# Altium footprint library SOT23_L.PcbLib: 10 footprints
Each footprint in its own frame and in the unit in brackets; x right, y up, seen from the top. Pads: shape width x height; smd on the part's side, far side on the other; paste and mask are expansions set on the pad; w line width, h text height; cw(c..) or ccw(c..) is an arc to the next point about the centre after c.
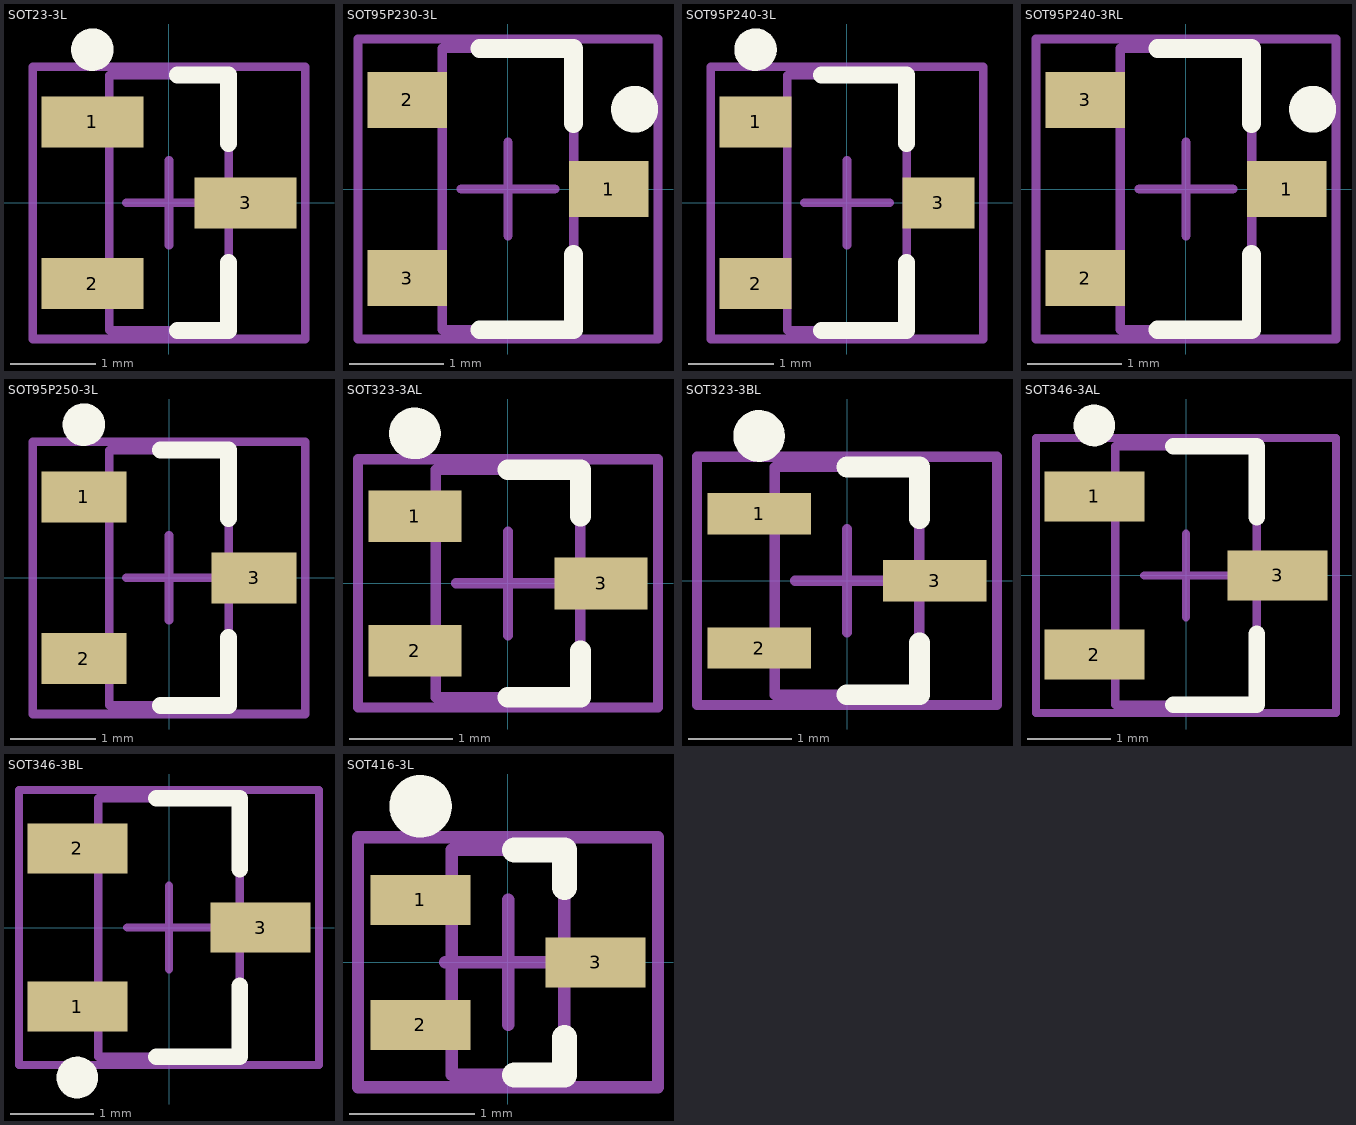
[diagram p0: the footprints below, top view; thin cyan lines are the x and y axes]

## SOT23-3L [mm] "SOT23, 3-Leads, Body 2.9x1.3mm, Pitch 0.95mm, Lead Span 2.5mm, IPC High Density"
height 1.1
pads (3):
  rect 1.2x0.6 smd: 1(-0.9,0.95) 2(-0.9,-0.95) 3(0.9,0)
Top Overlay:
  circle w0.25: c-0.9,1.8 r0.125
  lines w0.2: 0.1,-1.5 0.7,-1.5 0.7,-0.7 ; 0.1,1.5 0.7,1.5 0.7,0.7
Mechanical 13:
  lines w0.1: -0.7,-1.5 0.7,-1.5 0.7,1.5 -0.7,1.5 -0.7,-1.5
Mechanical 15:
  lines w0.1: -0.5,0 0.5,0 ; 0,-0.5 0,0.5 ; -1.6,-1.6 1.6,-1.6 1.6,1.6 -1.6,1.6 -1.6,-1.6
3D body: height 1.1, standoff 0, extent -0.7,-1.5 0.7,1.5

## SOT95P230-3L [mm] "SOT23, 3-Leads, Body 2.9x1.3mm, Pitch 0.95mm, Lead Span 2.3mm - Alternate Lead Configuration, IPC High Density"
height 1.1
pads (3):
  rect 0.85x0.6 smd: 1(1.075,0) 2(-1.075,0.95) 3(-1.075,-0.95)
Top Overlay:
  circle w0.25: c1.35,0.85 r0.125
  lines w0.2: -0.3,-1.5 0.7,-1.5 0.7,-0.7 ; -0.3,1.5 0.7,1.5 0.7,0.7
Mechanical 13:
  lines w0.1: -0.7,-1.5 0.7,-1.5 0.7,1.5 -0.7,1.5 -0.7,-1.5
Mechanical 15:
  lines w0.1: -0.5,0 0.5,0 ; 0,-0.5 0,0.5 ; -1.6,-1.6 1.6,-1.6 1.6,1.6 -1.6,1.6 -1.6,-1.6
3D body: height 1.1, standoff 0, extent -0.7,-1.5 0.7,1.5

## SOT95P240-3L [mm] "SOT23, 3-Leads, Body 2.9x1.3mm, Pitch 0.95mm, Lead Span 2.4mm, IPC High Density"
height 1.12
pads (3):
  rect 0.85x0.6 smd: 1(-1.075,0.95) 2(-1.075,-0.95) 3(1.075,0)
Top Overlay:
  circle w0.25: c-1.075,1.8 r0.125
  lines w0.2: -0.3,-1.5 0.7,-1.5 0.7,-0.7 ; -0.3,1.5 0.7,1.5 0.7,0.7
Mechanical 13:
  lines w0.1: -0.7,-1.5 0.7,-1.5 0.7,1.5 -0.7,1.5 -0.7,-1.5
Mechanical 15:
  lines w0.1: -0.5,0 0.5,0 ; 0,-0.5 0,0.5 ; -1.6,-1.6 1.6,-1.6 1.6,1.6 -1.6,1.6 -1.6,-1.6
3D body: height 1.12, standoff 0, extent -0.7,-1.5 0.7,1.5

## SOT95P240-3RL [mm] "SOT23, 3-Leads, Body 2.9x1.3mm, Pitch 0.95mm, Lead Span 2.3mm - Reverse Pinning, IPC High Density"
height 1.1
pads (3):
  rect 0.85x0.6 smd: 1(1.075,0) 2(-1.075,-0.95) 3(-1.075,0.95)
Top Overlay:
  circle w0.25: c1.35,0.85 r0.125
  lines w0.2: -0.3,-1.5 0.7,-1.5 0.7,-0.7 ; -0.3,1.5 0.7,1.5 0.7,0.7
Mechanical 13:
  lines w0.1: -0.7,-1.5 0.7,-1.5 0.7,1.5 -0.7,1.5 -0.7,-1.5
Mechanical 15:
  lines w0.1: -0.5,0 0.5,0 ; 0,-0.5 0,0.5 ; -1.6,-1.6 1.6,-1.6 1.6,1.6 -1.6,1.6 -1.6,-1.6
3D body: height 1.1, standoff 0, extent -0.7,-1.5 0.7,1.5

## SOT95P250-3L [mm] "SOT23, 3-Leads, Body 2.9x1.3mm, Pitch 0.95mm, Lead Span 2.3mm, IPC High Density"
height 1.2
pads (3):
  rect 1x0.6 smd: 1(-1,0.95) 2(-1,-0.95) 3(1,0)
Top Overlay:
  circle w0.25: c-1,1.8 r0.125
  lines w0.2: -0.1,-1.5 0.7,-1.5 0.7,-0.7 ; -0.1,1.5 0.7,1.5 0.7,0.7
Mechanical 13:
  lines w0.1: -0.7,-1.5 0.7,-1.5 0.7,1.5 -0.7,1.5 -0.7,-1.5
Mechanical 15:
  lines w0.1: -0.5,0 0.5,0 ; 0,-0.5 0,0.5 ; -1.6,-1.6 1.6,-1.6 1.6,1.6 -1.6,1.6 -1.6,-1.6
3D body: height 1.2, standoff 0, extent -0.7,-1.5 0.7,1.5

## SOT323-3AL [mm] "SOT323, 3-Leads, Body 2.0x1.3mm, Pitch 0.65mm, Lead Span 2.1mm, IPC High Density"
height 1
pads (3):
  rect 0.9x0.5 smd: 1(-0.9,0.65) 2(-0.9,-0.65) 3(0.9,0)
Top Overlay:
  circle w0.25: c-0.9,1.45 r0.125
  lines w0.2: 0,-1.1 0.7,-1.1 0.7,-0.65 ; 0,1.1 0.7,1.1 0.7,0.65
Mechanical 13:
  lines w0.1: -0.7,-1.1 0.7,-1.1 0.7,1.1 -0.7,1.1 -0.7,-1.1
Mechanical 15:
  lines w0.1: -0.5,0 0.5,0 ; 0,-0.5 0,0.5 ; -1.45,-1.2 1.45,-1.2 1.45,1.2 -1.45,1.2 -1.45,-1.2
3D body: height 1, standoff 0, extent -0.7,-1.1 0.7,1.1

## SOT323-3BL [mm] "SOT23, 3-Leads, Body 2x1.25mm, Pitch 0.65mm, Lead Span 2.1mm, IPC High Density"
height 1.1
pads (3):
  rect 1x0.4 smd: 1(-0.85,0.65) 2(-0.85,-0.65) 3(0.85,0)
Top Overlay:
  circle w0.25: c-0.85,1.4 r0.125
  lines w0.2: 0,-1.1 0.7,-1.1 0.7,-0.6 ; 0,1.1 0.7,1.1 0.7,0.6
Mechanical 13:
  lines w0.1: -0.7,-1.1 0.7,-1.1 0.7,1.1 -0.7,1.1 -0.7,-1.1
Mechanical 15:
  lines w0.1: -0.5,0 0.5,0 ; 0,-0.5 0,0.5 ; -1.45,-1.2 1.45,-1.2 1.45,1.2 -1.45,1.2 -1.45,-1.2
3D body: height 1.1, standoff 0, extent -0.7,-1.1 0.7,1.1

## SOT346-3AL [mm] "SOT346, 3-Leads, Body 2.9x1.5mm, Pitch 0.95mm, Lead Span 2.6mm, IPC High Density"
height 1.45
pads (3):
  rect 1.2x0.6 smd: 1(-1.1,0.95) 2(-1.1,-0.95) 3(1.1,0)
Top Overlay:
  circle w0.25: c-1.1,1.8 r0.125
  lines w0.2: -0.15,-1.55 0.85,-1.55 0.85,-0.7 ; -0.15,1.55 0.85,1.55 0.85,0.7
Mechanical 13:
  lines w0.1: -0.85,-1.55 0.85,-1.55 0.85,1.55 -0.85,1.55 -0.85,-1.55
Mechanical 15:
  lines w0.1: -0.5,0 0.5,0 ; 0,-0.5 0,0.5 ; -1.8,-1.65 1.8,-1.65 1.8,1.65 -1.8,1.65 -1.8,-1.65
3D body: height 1.45, standoff 0, extent -0.85,-1.55 0.85,1.55

## SOT346-3BL [mm] "SOT346, 3-Leads, Body 2.9x1.5mm, Pitch 0.95mm, Lead Span 2.8mm - Alternate Lead Configuration, IPC High Density"
height 1.3
pads (3):
  rect 1.2x0.6 smd: 1(-1.1,-0.95) 2(-1.1,0.95) 3(1.1,0)
Top Overlay:
  circle w0.25: c-1.1,-1.8 r0.125
  lines w0.2: -0.15,-1.55 0.85,-1.55 0.85,-0.7 ; -0.15,1.55 0.85,1.55 0.85,0.7
Mechanical 13:
  lines w0.1: -0.85,-1.55 0.85,-1.55 0.85,1.55 -0.85,1.55 -0.85,-1.55
Mechanical 15:
  lines w0.1: -0.5,0 0.5,0 ; 0,-0.5 0,0.5 ; -1.8,-1.65 1.8,-1.65 1.8,1.65 -1.8,1.65 -1.8,-1.65
3D body: height 1.3, standoff 0, extent -0.85,-1.55 0.85,1.55

## SOT416-3L [mm] "SOT416, 3-Leads, Body 1.6x0.8mm, Pitch 0.50mm, Lead Span 1.6mm, IPC High Density"
height 0.95
pads (3):
  rect 0.8x0.4 smd: 1(-0.7,0.5) 2(-0.7,-0.5) 3(0.7,0)
Top Overlay:
  circle w0.25: c-0.7,1.25 r0.125
  lines w0.2: 0.05,-0.9 0.45,-0.9 0.45,-0.6 ; 0.05,0.9 0.45,0.9 0.45,0.6
Mechanical 13:
  lines w0.1: -0.45,-0.9 0.45,-0.9 0.45,0.9 -0.45,0.9 -0.45,-0.9
Mechanical 15:
  lines w0.1: -0.5,0 0.5,0 ; 0,-0.5 0,0.5 ; -1.2,-1 1.2,-1 1.2,1 -1.2,1 -1.2,-1
3D body: height 0.95, standoff 0, extent -0.45,-0.9 0.45,0.9